# EAGLE library part DMMT3906W (library kwoo)
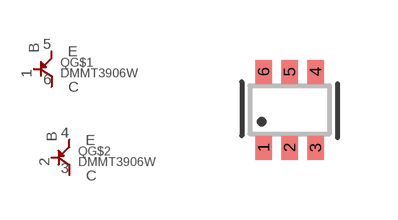
[diagram p23: symbol with the pads of SOT363; footprint SOT363]

Designator prefix Q; gates G$1=PNP_TRANSISTOR_3PIN G$2=PNP_TRANSISTOR_3PIN

## DMMT3906W  [SOT363]
1  G$1:B
2  G$2:B
3  G$2:C
4  G$2:E
5  G$1:E
6  G$1:C

## Footprint SOT363 (pad centres in mm)
smd 0.42 x 0.6: 1 -0.65,-0.95; 2 0,-0.95; 3 0.65,-0.95; 4 0.65,0.95; 5 0,0.95; 6 -0.65,0.95